# Altium schematic symbol library TLV76733QWDRBRQ1.SchLib: 1 symbol
Pins are listed as number, name and electrical type; pins without a type are passive.

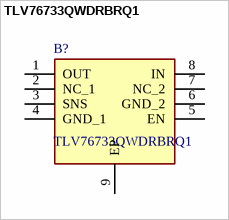
[diagram p0: symbol TLV76733QWDRBRQ1]

## TLV76733QWDRBRQ1
designator B?
LDO Voltage Regulators Automotive adjustable- and fixed-output, 1-A, 16-V, positive-voltage low-dropout linear regulator 8-SON -40 to 150; Manufacturer_Name: Texas Instruments; Geometry.Height: 1mm; Mouser Part Number: 595-TLV76733QWDRBRQ1; Mouser Price/Stock: https://www.mouser.co.uk/ProductDetail/Texas-Instruments/TLV76733QWDRBRQ1?qs=eP2BKZSCXI5iL%252B1dqMuFDw%3D%3D; Manufacturer_Part_Number: TLV76733QWDRBRQ1; Datasheet Link: https://www.ti.com/lit/ds/symlink/tlv767-q1.pdf?ts=1623233650807&ref_url=https%253A%252F%252Fwww.ti.com%252Fstore%252Fti%252Fen%252Fp%252Fproduct%252F%253Fp%253DTLV76780QWDRBRQ1
footprint SON65P300X300X100-9N-D
pins: 1 OUT, 2 NC_1, 3 SNS, 4 GND_1, 5 EN, 6 GND_2, 7 NC_2, 8 IN, 9 EP